# Altium footprint library C2003WR-S-XP.PcbLib: 1 footprints
Each footprint in its own frame and in the unit in brackets; x right, y up, seen from the top. Pads: shape width x height; smd on the part's side, far side on the other; paste and mask are expansions set on the pad; w line width, h text height; cw(c..) or ccw(c..) is an arc to the next point about the centre after c.
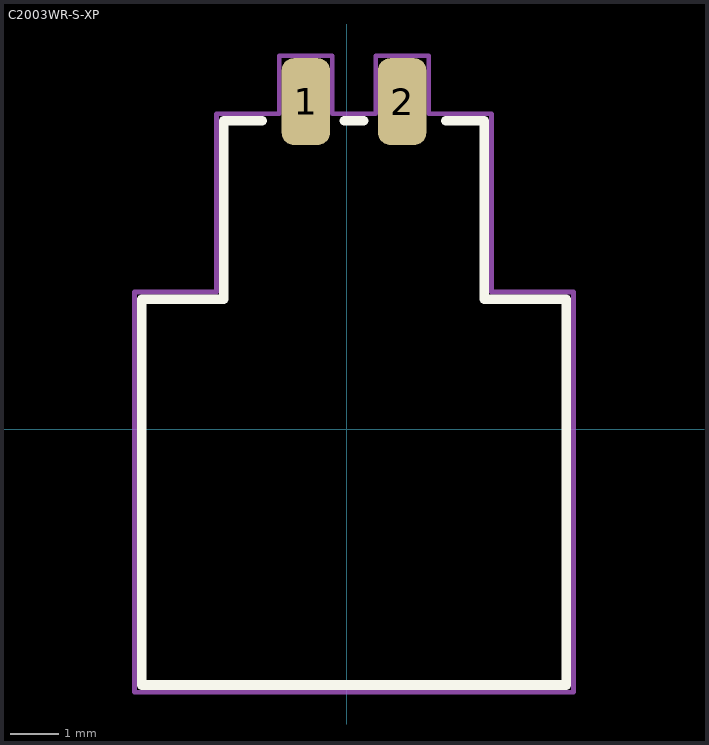
[diagram p0: the footprint, top view; thin cyan lines are the x and y axes]

## C2003WR-S-XP [mm]
pads (2):
  rrect50% 1x1.8 smd mask+0: 1(-0.85,6.8) 2(1.15,6.8)
Top Overlay:
  lines w0.2: -1.75,6.4 -2.55,6.4 -2.55,2.7 -4.25,2.7 -4.25,-5.3 4.55,-5.3 4.55,2.7 2.85,2.7 2.85,6.4 2.05,6.4 ; -0.05,6.4 0.35,6.4
Mechanical 7:
  lines w0.1: -4.4,-5.45 4.7,-5.45 4.7,2.7 4.7,2.85 3,2.85 3,6.55 1.7,6.55 1.7,7.75 0.6,7.75 0.6,6.55 -0.3,6.55 -0.3,7.75 -1.4,7.75 -1.4,6.55 -2.7,6.55 -2.7,2.85 -4.4,2.85 -4.4,-5.45
Mechanical 9:
  text "'.Designator'" at -5.823,1.756 h1.02
3D body "C2003WR-S-2P.stp": height 2.66, standoff 0.01, extent -4,-5.25 4.3,7.4
3D body: height 3, standoff 0, extent -4.4,-5.45 4.7,7.75